# EAGLE library part DISP_SEGMENT_STARBURST_COMMONCATHODE (library microbuilder)
Starburst Segment Display - Common Cathode 0.8" Red Alphanumeric LED Display - BL-S80A-13UHR-11
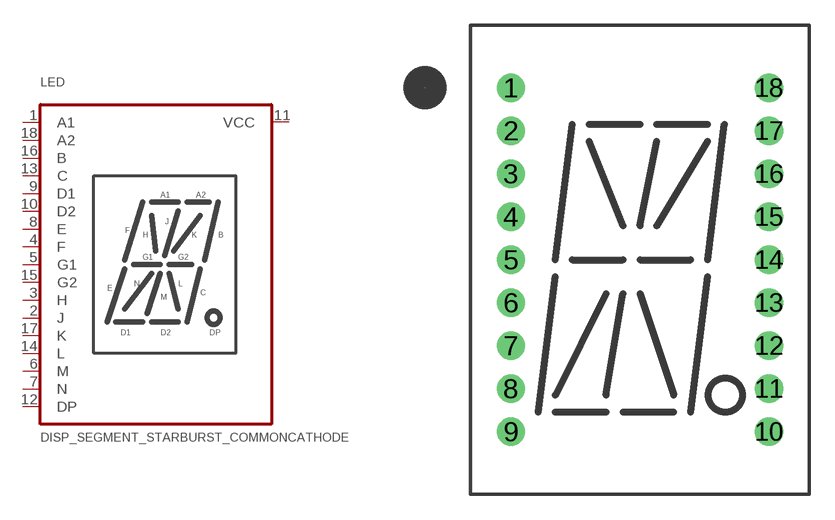
[diagram p137: symbol with the pads of SEGMENT_STARBURST_BL-S80A-13; footprint SEGMENT_STARBURST_BL-S80A-13]

Designator prefix LED

## DISP_SEGMENT_STARBURST_COMMONCATHODEBLS80A13  [SEGMENT_STARBURST_BL-S80A-13]
1  A1
2  J
3  H
4  F
5  G1
6  M
7  N
8  E
9  D1
10  D2
11  VCC  pwr
12  DP
13  C
14  L
15  G2
16  B
17  K
18  A2

## Footprint SEGMENT_STARBURST_BL-S80A-13 (pad centres in mm)
drill 0.8 pad 1.676: 1 -7.62,10.16; 2 -7.62,7.62; 3 -7.62,5.08; 4 -7.62,2.54; 5 -7.62,0; 6 -7.62,-2.54; 7 -7.62,-5.08; 8 -7.62,-7.62; 9 -7.62,-10.16; 10 7.62,-10.16; 11 7.62,-7.62; 12 7.62,-5.08; 13 7.62,-2.54; 14 7.62,0; 15 7.62,2.54; 16 7.62,5.08; 17 7.62,7.62; 18 7.62,10.16